# EAGLE library part STLQ015XG33R (library balmer)
Linear voltage regulator
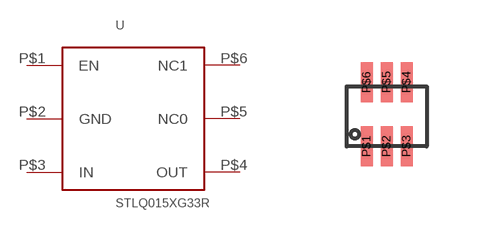
[diagram p13: symbol with the pads of SOT666; footprint SOT666]

Designator prefix -

## STLQ015XG33R  [SOT666]
P$1  EN
P$2  GND
P$3  IN
P$4  OUT
P$5  NC0
P$6  NC1

## Footprint SOT666 (pad centres in mm)
smd 0.3 x 0.99: P$1 -0.5,-1; P$2 0,-1; P$3 0.5,-1; P$4 0.5,0.6; P$5 0,0.6; P$6 -0.5,0.6